# EAGLE library part ADXL311 (library TEABOX-LIB)
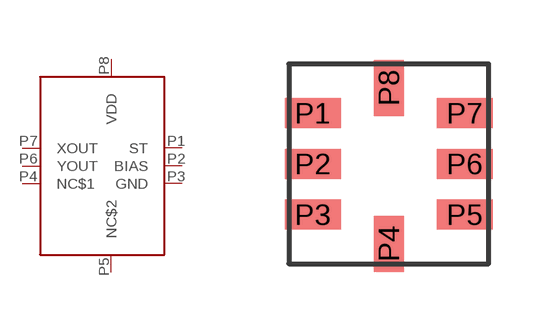
[diagram p25: symbol with the pads of CLCC-8; footprint CLCC-8]

Designator prefix U

## ADXL311  [CLCC-8]
P1  ST
P2  BIAS
P3  GND  sup
P4  NC$1  nc
P5  NC$2  nc
P6  YOUT
P7  XOUT
P8  VDD  pwr

## Footprint CLCC-8 (pad centres in mm)
smd 1.4 x 0.75: P1 0.6,3.77; P2 0.6,2.5; P3 0.6,1.23; P5 4.4,1.23; P6 4.4,2.5; P7 4.4,3.77
smd 0.75 x 1.4: P4 2.5,0.5; P8 2.5,4.4